# EAGLE library part MICRO-USB-SHIELD- (library con-hirose)
Hirose Micro USB Connector ZX62R-B-5P: Micro B, reverse (top mount) shell SMT Supplier: DigiKey H11574CT-ND Source: http://www.hirose.co.jp/cataloge_hp/e24200011.pdf
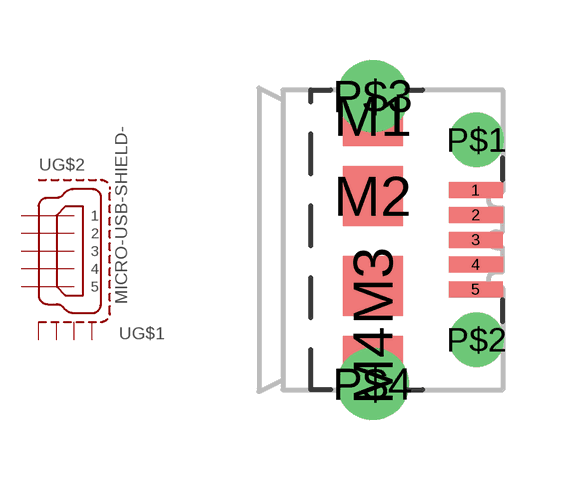
[diagram p35: symbol with the pads of 10118194-0001LF; footprint 10118194-0001LF]

Designator prefix -; gates G$1=USB-SHIELD G$2=MINI-USB

## MICRO-USB-SHIELD-ZX62R-B-5P  [10118194-0001LF]
1  G$2:1  in
2  G$2:2  in
3  G$2:3  in
4  G$2:4  in
5  G$2:5  in
M1  G$1:S1  pas
M2  G$1:S2  pas
M3  G$1:S4  pas
M4  G$1:S3  pas

## Footprint 10118194-0001LF (pad centres in mm)
MINI USB Connector HI-SPEED Certified Metal Shield SMT Type Without Positioning Post Source: http://www.hirose.co.jp/cataloge_hp/e24000019.pdf
smd 1.35 x 0.4: 1 2.675,1.24; 2 2.675,0.62; 3 2.675,0; 4 2.675,-0.62; 5 2.675,-1.24
smd 1.5 x 1.5: M1 0.1,3.1; M2 0.1,1.1; M3 0.1,-1.15; M4 0.1,-3.15
drill 0.85: P$1 2.7,2.5; P$2 2.7,-2.5
drill 1.2: P$3 0.1,3.6; P$4 0.1,-3.6